# Altium footprint library Infineon Technologies Footprints.PcbLib: 65 footprints (part 3 of 5)
Each footprint in its own frame and in the unit in brackets; x right, y up, seen from the top. Pads: shape width x height; smd on the part's side, far side on the other; paste and mask are expansions set on the pad; w line width, h text height; cw(c..) or ccw(c..) is an arc to the next point about the centre after c.
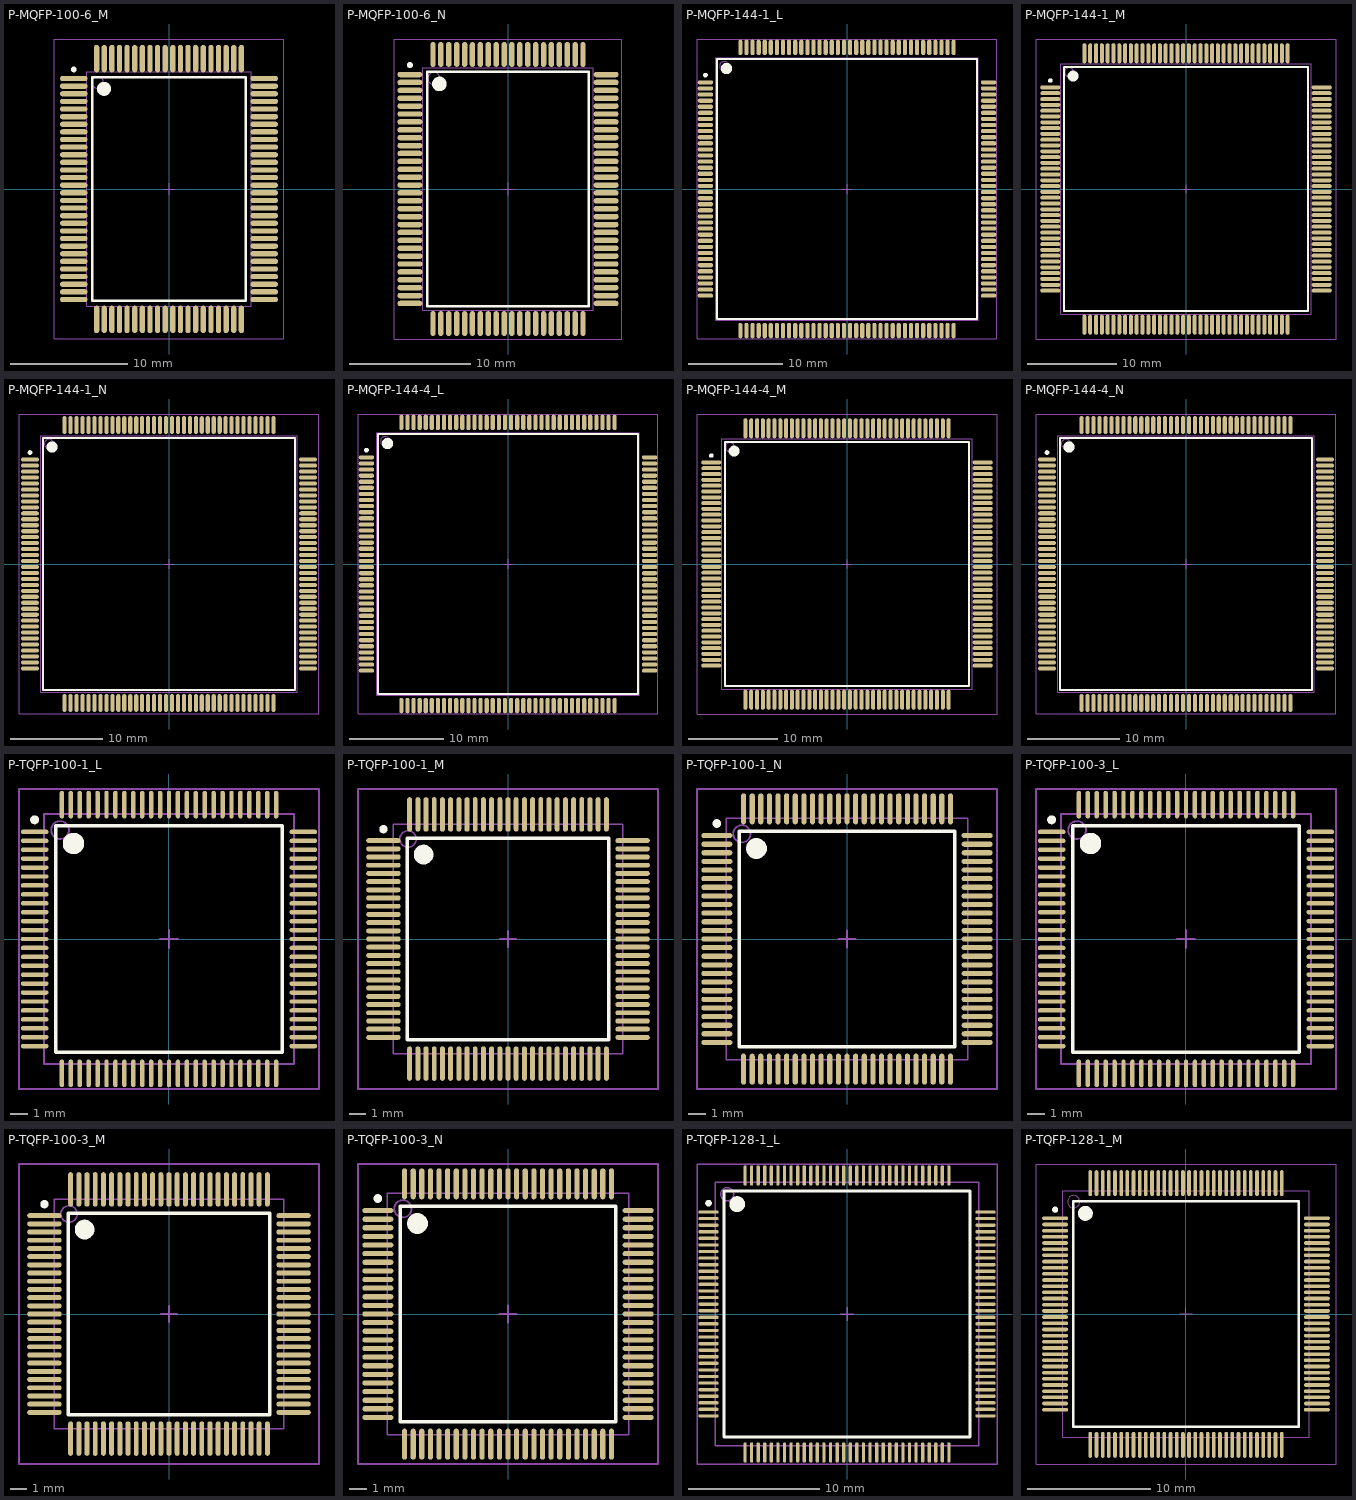
[diagram p2: the footprints below, top view; thin cyan lines are the x and y axes]

## P-MQFP-100-6_M [mm] "100-Pin Quad Flat Pack Rectangular 0.65 mm Pitch, IPC Low Density"
height 3.4
pads (100):
  oval 2.35x0.45 smd: 1(-8.125,9.425) 2(-8.125,8.775) 3(-8.125,8.125) 4(-8.125,7.475) 5(-8.125,6.825) 6(-8.125,6.175) 7(-8.125,5.525) 8(-8.125,4.875) 9(-8.125,4.225) 10(-8.125,3.575) 11(-8.125,2.925) 12(-8.125,2.275) 13(-8.125,1.625) 14(-8.125,0.975) 15(-8.125,0.325) 16(-8.125,-0.325) 17(-8.125,-0.975) 18(-8.125,-1.625) 19(-8.125,-2.275) 20(-8.125,-2.925) 21(-8.125,-3.575) 22(-8.125,-4.225) 23(-8.125,-4.875) 24(-8.125,-5.525) 25(-8.125,-6.175) 26(-8.125,-6.825) 27(-8.125,-7.475) 28(-8.125,-8.125) 29(-8.125,-8.775) 30(-8.125,-9.425) 51(8.125,-9.425) 52(8.125,-8.775) 53(8.125,-8.125) 54(8.125,-7.475) 55(8.125,-6.825) 56(8.125,-6.175) 57(8.125,-5.525) 58(8.125,-4.875) 59(8.125,-4.225) 60(8.125,-3.575) 61(8.125,-2.925) 62(8.125,-2.275) 63(8.125,-1.625) 64(8.125,-0.975) 65(8.125,-0.325) 66(8.125,0.325) 67(8.125,0.975) 68(8.125,1.625) 69(8.125,2.275) 70(8.125,2.925) 71(8.125,3.575) 72(8.125,4.225) 73(8.125,4.875) 74(8.125,5.525) 75(8.125,6.175) 76(8.125,6.825) 77(8.125,7.475) 78(8.125,8.125) 79(8.125,8.775) 80(8.125,9.425)
  oval 0.45x2.35 smd: 31(-6.175,-11.125) 32(-5.525,-11.125) 33(-4.875,-11.125) 34(-4.225,-11.125) 35(-3.575,-11.125) 36(-2.925,-11.125) 37(-2.275,-11.125) 38(-1.625,-11.125) 39(-0.975,-11.125) 40(-0.325,-11.125) 41(0.325,-11.125) 42(0.975,-11.125) 43(1.625,-11.125) 44(2.275,-11.125) 45(2.925,-11.125) 46(3.575,-11.125) 47(4.225,-11.125) 48(4.875,-11.125) 49(5.525,-11.125) 50(6.175,-11.125) 81(6.175,11.125) 82(5.525,11.125) 83(4.875,11.125) 84(4.225,11.125) 85(3.575,11.125) 86(2.925,11.125) 87(2.275,11.125) 88(1.625,11.125) 89(0.975,11.125) 90(0.325,11.125) 91(-0.325,11.125) 92(-0.975,11.125) 93(-1.625,11.125) 94(-2.275,11.125) 95(-2.925,11.125) 96(-3.575,11.125) 97(-4.225,11.125) 98(-4.875,11.125) 99(-5.525,11.125) 100(-6.175,11.125)
Top Overlay:
  circle w0.25: c-8.125,10.2 r0.125
  circle w0.6: c-5.55,8.55 r0.3
  lines w0.2: -6.55,-9.55 -6.55,9.55 6.55,9.55 6.55,-9.55 -6.55,-9.55
Mechanical 13:
  circle w0.1: c-6.1,9.1 r0.5
  lines w0.1: -7,-10 -7,10 7,10 7,-10 -7,-10
Mechanical 15:
  lines w0.1: -0.5,0 0.5,0 ; 0,-0.5 0,0.5 ; -9.8,-12.8 -9.8,12.8 9.8,12.8 9.8,-12.8 -9.8,-12.8
3D body: height 3.4, standoff 0, extent -7,-10 7,10

## P-MQFP-100-6_N [mm] "100-Pin Quad Flat Pack Rectangular 0.65 mm Pitch, IPC Medium Density"
height 3.4
pads (100):
  oval 2.05x0.45 smd: 1(-8.075,9.425) 2(-8.075,8.775) 3(-8.075,8.125) 4(-8.075,7.475) 5(-8.075,6.825) 6(-8.075,6.175) 7(-8.075,5.525) 8(-8.075,4.875) 9(-8.075,4.225) 10(-8.075,3.575) 11(-8.075,2.925) 12(-8.075,2.275) 13(-8.075,1.625) 14(-8.075,0.975) 15(-8.075,0.325) 16(-8.075,-0.325) 17(-8.075,-0.975) 18(-8.075,-1.625) 19(-8.075,-2.275) 20(-8.075,-2.925) 21(-8.075,-3.575) 22(-8.075,-4.225) 23(-8.075,-4.875) 24(-8.075,-5.525) 25(-8.075,-6.175) 26(-8.075,-6.825) 27(-8.075,-7.475) 28(-8.075,-8.125) 29(-8.075,-8.775) 30(-8.075,-9.425) 51(8.075,-9.425) 52(8.075,-8.775) 53(8.075,-8.125) 54(8.075,-7.475) 55(8.075,-6.825) 56(8.075,-6.175) 57(8.075,-5.525) 58(8.075,-4.875) 59(8.075,-4.225) 60(8.075,-3.575) 61(8.075,-2.925) 62(8.075,-2.275) 63(8.075,-1.625) 64(8.075,-0.975) 65(8.075,-0.325) 66(8.075,0.325) 67(8.075,0.975) 68(8.075,1.625) 69(8.075,2.275) 70(8.075,2.925) 71(8.075,3.575) 72(8.075,4.225) 73(8.075,4.875) 74(8.075,5.525) 75(8.075,6.175) 76(8.075,6.825) 77(8.075,7.475) 78(8.075,8.125) 79(8.075,8.775) 80(8.075,9.425)
  oval 0.45x2.05 smd: 31(-6.175,-11.075) 32(-5.525,-11.075) 33(-4.875,-11.075) 34(-4.225,-11.075) 35(-3.575,-11.075) 36(-2.925,-11.075) 37(-2.275,-11.075) 38(-1.625,-11.075) 39(-0.975,-11.075) 40(-0.325,-11.075) 41(0.325,-11.075) 42(0.975,-11.075) 43(1.625,-11.075) 44(2.275,-11.075) 45(2.925,-11.075) 46(3.575,-11.075) 47(4.225,-11.075) 48(4.875,-11.075) 49(5.525,-11.075) 50(6.175,-11.075) 81(6.175,11.075) 82(5.525,11.075) 83(4.875,11.075) 84(4.225,11.075) 85(3.575,11.075) 86(2.925,11.075) 87(2.275,11.075) 88(1.625,11.075) 89(0.975,11.075) 90(0.325,11.075) 91(-0.325,11.075) 92(-0.975,11.075) 93(-1.625,11.075) 94(-2.275,11.075) 95(-2.925,11.075) 96(-3.575,11.075) 97(-4.225,11.075) 98(-4.875,11.075) 99(-5.525,11.075) 100(-6.175,11.075)
Top Overlay:
  circle w0.6: c-5.65,8.65 r0.3
  circle w0.25: c-8.075,10.2 r0.125
  lines w0.2: -6.65,-9.65 6.65,-9.65 6.65,9.65 -6.65,9.65 -6.65,-9.65
Mechanical 13:
  circle w0.1: c-6.1,9.1 r0.5
  lines w0.1: -7,-10 7,-10 7,10 -7,10 -7,-10
Mechanical 15:
  lines w0.1: -0.5,0 0.5,0 ; 0,-0.5 0,0.5 ; -9.35,-12.35 9.35,-12.35 9.35,12.35 -9.35,12.35 -9.35,-12.35
3D body: height 3.4, standoff 0, extent -7,-10 7,10

## P-MQFP-144-1_L [mm] "144-Pin Quad Flat Pack 0.65 mm Pitch, IPC High Density"
height 2.75
pads (144):
  oval 1.65x0.45 smd: 1(-15.1,11.375) 2(-15.1,10.725) 3(-15.1,10.075) 4(-15.1,9.425) 5(-15.1,8.775) 6(-15.1,8.125) 7(-15.1,7.475) 8(-15.1,6.825) 9(-15.1,6.175) 10(-15.1,5.525) 11(-15.1,4.875) 12(-15.1,4.225) 13(-15.1,3.575) 14(-15.1,2.925) 15(-15.1,2.275) 16(-15.1,1.625) 17(-15.1,0.975) 18(-15.1,0.325) 19(-15.1,-0.325) 20(-15.1,-0.975) 21(-15.1,-1.625) 22(-15.1,-2.275) 23(-15.1,-2.925) 24(-15.1,-3.575) 25(-15.1,-4.225) 26(-15.1,-4.875) 27(-15.1,-5.525) 28(-15.1,-6.175) 29(-15.1,-6.825) 30(-15.1,-7.475) 31(-15.1,-8.125) 32(-15.1,-8.775) 33(-15.1,-9.425) 34(-15.1,-10.075) 35(-15.1,-10.725) 36(-15.1,-11.375) 73(15.1,-11.375) 74(15.1,-10.725) 75(15.1,-10.075) 76(15.1,-9.425) 77(15.1,-8.775) 78(15.1,-8.125) 79(15.1,-7.475) 80(15.1,-6.825) 81(15.1,-6.175) 82(15.1,-5.525) 83(15.1,-4.875) 84(15.1,-4.225) 85(15.1,-3.575) 86(15.1,-2.925) 87(15.1,-2.275) 88(15.1,-1.625) 89(15.1,-0.975) 90(15.1,-0.325) 91(15.1,0.325) 92(15.1,0.975) 93(15.1,1.625) 94(15.1,2.275) 95(15.1,2.925) 96(15.1,3.575) 97(15.1,4.225) 98(15.1,4.875) 99(15.1,5.525) 100(15.1,6.175) 101(15.1,6.825) 102(15.1,7.475) 103(15.1,8.125) 104(15.1,8.775) 105(15.1,9.425) 106(15.1,10.075) 107(15.1,10.725) 108(15.1,11.375)
  oval 0.45x1.65 smd: 37(-11.375,-15.1) 38(-10.725,-15.1) 39(-10.075,-15.1) 40(-9.425,-15.1) 41(-8.775,-15.1) 42(-8.125,-15.1) 43(-7.475,-15.1) 44(-6.825,-15.1) 45(-6.175,-15.1) 46(-5.525,-15.1) 47(-4.875,-15.1) 48(-4.225,-15.1) 49(-3.575,-15.1) 50(-2.925,-15.1) 51(-2.275,-15.1) 52(-1.625,-15.1) 53(-0.975,-15.1) 54(-0.325,-15.1) 55(0.325,-15.1) 56(0.975,-15.1) 57(1.625,-15.1) 58(2.275,-15.1) 59(2.925,-15.1) 60(3.575,-15.1) 61(4.225,-15.1) 62(4.875,-15.1) 63(5.525,-15.1) 64(6.175,-15.1) 65(6.825,-15.1) 66(7.475,-15.1) 67(8.125,-15.1) 68(8.775,-15.1) 69(9.425,-15.1) 70(10.075,-15.1) 71(10.725,-15.1) 72(11.375,-15.1) 109(11.375,15.1) 110(10.725,15.1) 111(10.075,15.1) 112(9.425,15.1) 113(8.775,15.1) 114(8.125,15.1) 115(7.475,15.1) 116(6.825,15.1) 117(6.175,15.1) 118(5.525,15.1) 119(4.875,15.1) 120(4.225,15.1) 121(3.575,15.1) 122(2.925,15.1) 123(2.275,15.1) 124(1.625,15.1) 125(0.975,15.1) 126(0.325,15.1) 127(-0.325,15.1) 128(-0.975,15.1) 129(-1.625,15.1) 130(-2.275,15.1) 131(-2.925,15.1) 132(-3.575,15.1) 133(-4.225,15.1) 134(-4.875,15.1) 135(-5.525,15.1) 136(-6.175,15.1) 137(-6.825,15.1) 138(-7.475,15.1) 139(-8.125,15.1) 140(-8.775,15.1) 141(-9.425,15.1) 142(-10.075,15.1) 143(-10.725,15.1) 144(-11.375,15.1)
Top Overlay:
  circle w0.6: c-12.85,12.85 r0.3
  circle w0.25: c-15.1,12.15 r0.125
  lines w0.2: -13.85,-13.85 13.85,-13.85 13.85,13.85 -13.85,13.85 -13.85,-13.85
Mechanical 13:
  circle w0.1: c-13.1,13.1 r0.5
  lines w0.1: -14,-14 14,-14 14,14 -14,14 -14,-14
Mechanical 15:
  lines w0.1: -0.5,0 0.5,0 ; 0,-0.5 0,0.5 ; -16,-16 16,-16 16,16 -16,16 -16,-16
3D body: height 2.75, standoff 0, extent -14,-14 14,14

## P-MQFP-144-1_M [mm] "144-Pin Quad Flat Pack 0.65 mm Pitch, IPC Low Density"
height 2.75
pads (144):
  oval 2.25x0.45 smd: 1(-15.2,11.375) 2(-15.2,10.725) 3(-15.2,10.075) 4(-15.2,9.425) 5(-15.2,8.775) 6(-15.2,8.125) 7(-15.2,7.475) 8(-15.2,6.825) 9(-15.2,6.175) 10(-15.2,5.525) 11(-15.2,4.875) 12(-15.2,4.225) 13(-15.2,3.575) 14(-15.2,2.925) 15(-15.2,2.275) 16(-15.2,1.625) 17(-15.2,0.975) 18(-15.2,0.325) 19(-15.2,-0.325) 20(-15.2,-0.975) 21(-15.2,-1.625) 22(-15.2,-2.275) 23(-15.2,-2.925) 24(-15.2,-3.575) 25(-15.2,-4.225) 26(-15.2,-4.875) 27(-15.2,-5.525) 28(-15.2,-6.175) 29(-15.2,-6.825) 30(-15.2,-7.475) 31(-15.2,-8.125) 32(-15.2,-8.775) 33(-15.2,-9.425) 34(-15.2,-10.075) 35(-15.2,-10.725) 36(-15.2,-11.375) 73(15.2,-11.375) 74(15.2,-10.725) 75(15.2,-10.075) 76(15.2,-9.425) 77(15.2,-8.775) 78(15.2,-8.125) 79(15.2,-7.475) 80(15.2,-6.825) 81(15.2,-6.175) 82(15.2,-5.525) 83(15.2,-4.875) 84(15.2,-4.225) 85(15.2,-3.575) 86(15.2,-2.925) 87(15.2,-2.275) 88(15.2,-1.625) 89(15.2,-0.975) 90(15.2,-0.325) 91(15.2,0.325) 92(15.2,0.975) 93(15.2,1.625) 94(15.2,2.275) 95(15.2,2.925) 96(15.2,3.575) 97(15.2,4.225) 98(15.2,4.875) 99(15.2,5.525) 100(15.2,6.175) 101(15.2,6.825) 102(15.2,7.475) 103(15.2,8.125) 104(15.2,8.775) 105(15.2,9.425) 106(15.2,10.075) 107(15.2,10.725) 108(15.2,11.375)
  oval 0.45x2.25 smd: 37(-11.375,-15.2) 38(-10.725,-15.2) 39(-10.075,-15.2) 40(-9.425,-15.2) 41(-8.775,-15.2) 42(-8.125,-15.2) 43(-7.475,-15.2) 44(-6.825,-15.2) 45(-6.175,-15.2) 46(-5.525,-15.2) 47(-4.875,-15.2) 48(-4.225,-15.2) 49(-3.575,-15.2) 50(-2.925,-15.2) 51(-2.275,-15.2) 52(-1.625,-15.2) 53(-0.975,-15.2) 54(-0.325,-15.2) 55(0.325,-15.2) 56(0.975,-15.2) 57(1.625,-15.2) 58(2.275,-15.2) 59(2.925,-15.2) 60(3.575,-15.2) 61(4.225,-15.2) 62(4.875,-15.2) 63(5.525,-15.2) 64(6.175,-15.2) 65(6.825,-15.2) 66(7.475,-15.2) 67(8.125,-15.2) 68(8.775,-15.2) 69(9.425,-15.2) 70(10.075,-15.2) 71(10.725,-15.2) 72(11.375,-15.2) 109(11.375,15.2) 110(10.725,15.2) 111(10.075,15.2) 112(9.425,15.2) 113(8.775,15.2) 114(8.125,15.2) 115(7.475,15.2) 116(6.825,15.2) 117(6.175,15.2) 118(5.525,15.2) 119(4.875,15.2) 120(4.225,15.2) 121(3.575,15.2) 122(2.925,15.2) 123(2.275,15.2) 124(1.625,15.2) 125(0.975,15.2) 126(0.325,15.2) 127(-0.325,15.2) 128(-0.975,15.2) 129(-1.625,15.2) 130(-2.275,15.2) 131(-2.925,15.2) 132(-3.575,15.2) 133(-4.225,15.2) 134(-4.875,15.2) 135(-5.525,15.2) 136(-6.175,15.2) 137(-6.825,15.2) 138(-7.475,15.2) 139(-8.125,15.2) 140(-8.775,15.2) 141(-9.425,15.2) 142(-10.075,15.2) 143(-10.725,15.2) 144(-11.375,15.2)
Top Overlay:
  circle w0.6: c-12.65,12.65 r0.3
  circle w0.25: c-15.2,12.15 r0.125
  lines w0.2: -13.65,-13.65 13.65,-13.65 13.65,13.65 -13.65,13.65 -13.65,-13.65
Mechanical 13:
  circle w0.1: c-13.1,13.1 r0.5
  lines w0.1: -14,-14 14,-14 14,14 -14,14 -14,-14
Mechanical 15:
  lines w0.1: -0.5,0 0.5,0 ; 0,-0.5 0,0.5 ; -16.8,-16.8 16.8,-16.8 16.8,16.8 -16.8,16.8 -16.8,-16.8
3D body: height 2.75, standoff 0, extent -14,-14 14,14

## P-MQFP-144-1_N [mm] "144-Pin Quad Flat Pack 0.65 mm Pitch, IPC Medium Density"
height 2.75
pads (144):
  oval 1.95x0.45 smd: 1(-15.15,11.375) 2(-15.15,10.725) 3(-15.15,10.075) 4(-15.15,9.425) 5(-15.15,8.775) 6(-15.15,8.125) 7(-15.15,7.475) 8(-15.15,6.825) 9(-15.15,6.175) 10(-15.15,5.525) 11(-15.15,4.875) 12(-15.15,4.225) 13(-15.15,3.575) 14(-15.15,2.925) 15(-15.15,2.275) 16(-15.15,1.625) 17(-15.15,0.975) 18(-15.15,0.325) 19(-15.15,-0.325) 20(-15.15,-0.975) 21(-15.15,-1.625) 22(-15.15,-2.275) 23(-15.15,-2.925) 24(-15.15,-3.575) 25(-15.15,-4.225) 26(-15.15,-4.875) 27(-15.15,-5.525) 28(-15.15,-6.175) 29(-15.15,-6.825) 30(-15.15,-7.475) 31(-15.15,-8.125) 32(-15.15,-8.775) 33(-15.15,-9.425) 34(-15.15,-10.075) 35(-15.15,-10.725) 36(-15.15,-11.375) 73(15.15,-11.375) 74(15.15,-10.725) 75(15.15,-10.075) 76(15.15,-9.425) 77(15.15,-8.775) 78(15.15,-8.125) 79(15.15,-7.475) 80(15.15,-6.825) 81(15.15,-6.175) 82(15.15,-5.525) 83(15.15,-4.875) 84(15.15,-4.225) 85(15.15,-3.575) 86(15.15,-2.925) 87(15.15,-2.275) 88(15.15,-1.625) 89(15.15,-0.975) 90(15.15,-0.325) 91(15.15,0.325) 92(15.15,0.975) 93(15.15,1.625) 94(15.15,2.275) 95(15.15,2.925) 96(15.15,3.575) 97(15.15,4.225) 98(15.15,4.875) 99(15.15,5.525) 100(15.15,6.175) 101(15.15,6.825) 102(15.15,7.475) 103(15.15,8.125) 104(15.15,8.775) 105(15.15,9.425) 106(15.15,10.075) 107(15.15,10.725) 108(15.15,11.375)
  oval 0.45x1.95 smd: 37(-11.375,-15.15) 38(-10.725,-15.15) 39(-10.075,-15.15) 40(-9.425,-15.15) 41(-8.775,-15.15) 42(-8.125,-15.15) 43(-7.475,-15.15) 44(-6.825,-15.15) 45(-6.175,-15.15) 46(-5.525,-15.15) 47(-4.875,-15.15) 48(-4.225,-15.15) 49(-3.575,-15.15) 50(-2.925,-15.15) 51(-2.275,-15.15) 52(-1.625,-15.15) 53(-0.975,-15.15) 54(-0.325,-15.15) 55(0.325,-15.15) 56(0.975,-15.15) 57(1.625,-15.15) 58(2.275,-15.15) 59(2.925,-15.15) 60(3.575,-15.15) 61(4.225,-15.15) 62(4.875,-15.15) 63(5.525,-15.15) 64(6.175,-15.15) 65(6.825,-15.15) 66(7.475,-15.15) 67(8.125,-15.15) 68(8.775,-15.15) 69(9.425,-15.15) 70(10.075,-15.15) 71(10.725,-15.15) 72(11.375,-15.15) 109(11.375,15.15) 110(10.725,15.15) 111(10.075,15.15) 112(9.425,15.15) 113(8.775,15.15) 114(8.125,15.15) 115(7.475,15.15) 116(6.825,15.15) 117(6.175,15.15) 118(5.525,15.15) 119(4.875,15.15) 120(4.225,15.15) 121(3.575,15.15) 122(2.925,15.15) 123(2.275,15.15) 124(1.625,15.15) 125(0.975,15.15) 126(0.325,15.15) 127(-0.325,15.15) 128(-0.975,15.15) 129(-1.625,15.15) 130(-2.275,15.15) 131(-2.925,15.15) 132(-3.575,15.15) 133(-4.225,15.15) 134(-4.875,15.15) 135(-5.525,15.15) 136(-6.175,15.15) 137(-6.825,15.15) 138(-7.475,15.15) 139(-8.125,15.15) 140(-8.775,15.15) 141(-9.425,15.15) 142(-10.075,15.15) 143(-10.725,15.15) 144(-11.375,15.15)
Top Overlay:
  circle w0.6: c-12.75,12.75 r0.3
  circle w0.25: c-15.15,12.15 r0.125
  lines w0.2: -13.75,-13.75 13.75,-13.75 13.75,13.75 -13.75,13.75 -13.75,-13.75
Mechanical 13:
  circle w0.1: c-13.1,13.1 r0.5
  lines w0.1: -14,-14 14,-14 14,14 -14,14 -14,-14
Mechanical 15:
  lines w0.1: -0.5,0 0.5,0 ; 0,-0.5 0,0.5 ; -16.35,-16.35 16.35,-16.35 16.35,16.35 -16.35,16.35 -16.35,-16.35
3D body: height 2.75, standoff 0, extent -14,-14 14,14

## P-MQFP-144-4_L [mm] "144-Pin Quad Flat Pack 0.65 mm Pitch, IPC High Density"
height 2.75
pads (144):
  oval 1.65x0.45 smd: 1(-15.1,11.375) 2(-15.1,10.725) 3(-15.1,10.075) 4(-15.1,9.425) 5(-15.1,8.775) 6(-15.1,8.125) 7(-15.1,7.475) 8(-15.1,6.825) 9(-15.1,6.175) 10(-15.1,5.525) 11(-15.1,4.875) 12(-15.1,4.225) 13(-15.1,3.575) 14(-15.1,2.925) 15(-15.1,2.275) 16(-15.1,1.625) 17(-15.1,0.975) 18(-15.1,0.325) 19(-15.1,-0.325) 20(-15.1,-0.975) 21(-15.1,-1.625) 22(-15.1,-2.275) 23(-15.1,-2.925) 24(-15.1,-3.575) 25(-15.1,-4.225) 26(-15.1,-4.875) 27(-15.1,-5.525) 28(-15.1,-6.175) 29(-15.1,-6.825) 30(-15.1,-7.475) 31(-15.1,-8.125) 32(-15.1,-8.775) 33(-15.1,-9.425) 34(-15.1,-10.075) 35(-15.1,-10.725) 36(-15.1,-11.375) 73(15.1,-11.375) 74(15.1,-10.725) 75(15.1,-10.075) 76(15.1,-9.425) 77(15.1,-8.775) 78(15.1,-8.125) 79(15.1,-7.475) 80(15.1,-6.825) 81(15.1,-6.175) 82(15.1,-5.525) 83(15.1,-4.875) 84(15.1,-4.225) 85(15.1,-3.575) 86(15.1,-2.925) 87(15.1,-2.275) 88(15.1,-1.625) 89(15.1,-0.975) 90(15.1,-0.325) 91(15.1,0.325) 92(15.1,0.975) 93(15.1,1.625) 94(15.1,2.275) 95(15.1,2.925) 96(15.1,3.575) 97(15.1,4.225) 98(15.1,4.875) 99(15.1,5.525) 100(15.1,6.175) 101(15.1,6.825) 102(15.1,7.475) 103(15.1,8.125) 104(15.1,8.775) 105(15.1,9.425) 106(15.1,10.075) 107(15.1,10.725) 108(15.1,11.375)
  oval 0.45x1.65 smd: 37(-11.375,-15.1) 38(-10.725,-15.1) 39(-10.075,-15.1) 40(-9.425,-15.1) 41(-8.775,-15.1) 42(-8.125,-15.1) 43(-7.475,-15.1) 44(-6.825,-15.1) 45(-6.175,-15.1) 46(-5.525,-15.1) 47(-4.875,-15.1) 48(-4.225,-15.1) 49(-3.575,-15.1) 50(-2.925,-15.1) 51(-2.275,-15.1) 52(-1.625,-15.1) 53(-0.975,-15.1) 54(-0.325,-15.1) 55(0.325,-15.1) 56(0.975,-15.1) 57(1.625,-15.1) 58(2.275,-15.1) 59(2.925,-15.1) 60(3.575,-15.1) 61(4.225,-15.1) 62(4.875,-15.1) 63(5.525,-15.1) 64(6.175,-15.1) 65(6.825,-15.1) 66(7.475,-15.1) 67(8.125,-15.1) 68(8.775,-15.1) 69(9.425,-15.1) 70(10.075,-15.1) 71(10.725,-15.1) 72(11.375,-15.1) 109(11.375,15.1) 110(10.725,15.1) 111(10.075,15.1) 112(9.425,15.1) 113(8.775,15.1) 114(8.125,15.1) 115(7.475,15.1) 116(6.825,15.1) 117(6.175,15.1) 118(5.525,15.1) 119(4.875,15.1) 120(4.225,15.1) 121(3.575,15.1) 122(2.925,15.1) 123(2.275,15.1) 124(1.625,15.1) 125(0.975,15.1) 126(0.325,15.1) 127(-0.325,15.1) 128(-0.975,15.1) 129(-1.625,15.1) 130(-2.275,15.1) 131(-2.925,15.1) 132(-3.575,15.1) 133(-4.225,15.1) 134(-4.875,15.1) 135(-5.525,15.1) 136(-6.175,15.1) 137(-6.825,15.1) 138(-7.475,15.1) 139(-8.125,15.1) 140(-8.775,15.1) 141(-9.425,15.1) 142(-10.075,15.1) 143(-10.725,15.1) 144(-11.375,15.1)
Top Overlay:
  circle w0.6: c-12.85,12.85 r0.3
  circle w0.25: c-15.1,12.15 r0.125
  lines w0.2: -13.85,-13.85 13.85,-13.85 13.85,13.85 -13.85,13.85 -13.85,-13.85
Mechanical 13:
  circle w0.1: c-13.1,13.1 r0.5
  lines w0.1: -14,-14 14,-14 14,14 -14,14 -14,-14
Mechanical 15:
  lines w0.1: -0.5,0 0.5,0 ; 0,-0.5 0,0.5 ; -16,-16 16,-16 16,16 -16,16 -16,-16
3D body: height 2.75, standoff 0, extent -14,-14 14,14

## P-MQFP-144-4_M [mm] "144-Pin Quad Flat Pack 0.65 mm Pitch, IPC Low Density"
height 2.75
pads (144):
  oval 2.25x0.45 smd: 1(-15.2,11.375) 2(-15.2,10.725) 3(-15.2,10.075) 4(-15.2,9.425) 5(-15.2,8.775) 6(-15.2,8.125) 7(-15.2,7.475) 8(-15.2,6.825) 9(-15.2,6.175) 10(-15.2,5.525) 11(-15.2,4.875) 12(-15.2,4.225) 13(-15.2,3.575) 14(-15.2,2.925) 15(-15.2,2.275) 16(-15.2,1.625) 17(-15.2,0.975) 18(-15.2,0.325) 19(-15.2,-0.325) 20(-15.2,-0.975) 21(-15.2,-1.625) 22(-15.2,-2.275) 23(-15.2,-2.925) 24(-15.2,-3.575) 25(-15.2,-4.225) 26(-15.2,-4.875) 27(-15.2,-5.525) 28(-15.2,-6.175) 29(-15.2,-6.825) 30(-15.2,-7.475) 31(-15.2,-8.125) 32(-15.2,-8.775) 33(-15.2,-9.425) 34(-15.2,-10.075) 35(-15.2,-10.725) 36(-15.2,-11.375) 73(15.2,-11.375) 74(15.2,-10.725) 75(15.2,-10.075) 76(15.2,-9.425) 77(15.2,-8.775) 78(15.2,-8.125) 79(15.2,-7.475) 80(15.2,-6.825) 81(15.2,-6.175) 82(15.2,-5.525) 83(15.2,-4.875) 84(15.2,-4.225) 85(15.2,-3.575) 86(15.2,-2.925) 87(15.2,-2.275) 88(15.2,-1.625) 89(15.2,-0.975) 90(15.2,-0.325) 91(15.2,0.325) 92(15.2,0.975) 93(15.2,1.625) 94(15.2,2.275) 95(15.2,2.925) 96(15.2,3.575) 97(15.2,4.225) 98(15.2,4.875) 99(15.2,5.525) 100(15.2,6.175) 101(15.2,6.825) 102(15.2,7.475) 103(15.2,8.125) 104(15.2,8.775) 105(15.2,9.425) 106(15.2,10.075) 107(15.2,10.725) 108(15.2,11.375)
  oval 0.45x2.25 smd: 37(-11.375,-15.2) 38(-10.725,-15.2) 39(-10.075,-15.2) 40(-9.425,-15.2) 41(-8.775,-15.2) 42(-8.125,-15.2) 43(-7.475,-15.2) 44(-6.825,-15.2) 45(-6.175,-15.2) 46(-5.525,-15.2) 47(-4.875,-15.2) 48(-4.225,-15.2) 49(-3.575,-15.2) 50(-2.925,-15.2) 51(-2.275,-15.2) 52(-1.625,-15.2) 53(-0.975,-15.2) 54(-0.325,-15.2) 55(0.325,-15.2) 56(0.975,-15.2) 57(1.625,-15.2) 58(2.275,-15.2) 59(2.925,-15.2) 60(3.575,-15.2) 61(4.225,-15.2) 62(4.875,-15.2) 63(5.525,-15.2) 64(6.175,-15.2) 65(6.825,-15.2) 66(7.475,-15.2) 67(8.125,-15.2) 68(8.775,-15.2) 69(9.425,-15.2) 70(10.075,-15.2) 71(10.725,-15.2) 72(11.375,-15.2) 109(11.375,15.2) 110(10.725,15.2) 111(10.075,15.2) 112(9.425,15.2) 113(8.775,15.2) 114(8.125,15.2) 115(7.475,15.2) 116(6.825,15.2) 117(6.175,15.2) 118(5.525,15.2) 119(4.875,15.2) 120(4.225,15.2) 121(3.575,15.2) 122(2.925,15.2) 123(2.275,15.2) 124(1.625,15.2) 125(0.975,15.2) 126(0.325,15.2) 127(-0.325,15.2) 128(-0.975,15.2) 129(-1.625,15.2) 130(-2.275,15.2) 131(-2.925,15.2) 132(-3.575,15.2) 133(-4.225,15.2) 134(-4.875,15.2) 135(-5.525,15.2) 136(-6.175,15.2) 137(-6.825,15.2) 138(-7.475,15.2) 139(-8.125,15.2) 140(-8.775,15.2) 141(-9.425,15.2) 142(-10.075,15.2) 143(-10.725,15.2) 144(-11.375,15.2)
Top Overlay:
  circle w0.6: c-12.65,12.65 r0.3
  circle w0.25: c-15.2,12.15 r0.125
  lines w0.2: -13.65,-13.65 13.65,-13.65 13.65,13.65 -13.65,13.65 -13.65,-13.65
Mechanical 13:
  circle w0.1: c-13.1,13.1 r0.5
  lines w0.1: -14,-14 14,-14 14,14 -14,14 -14,-14
Mechanical 15:
  lines w0.1: -0.5,0 0.5,0 ; 0,-0.5 0,0.5 ; -16.8,-16.8 16.8,-16.8 16.8,16.8 -16.8,16.8 -16.8,-16.8
3D body: height 2.75, standoff 0, extent -14,-14 14,14

## P-MQFP-144-4_N [mm] "144-Pin Quad Flat Pack 0.65 mm Pitch, IPC Medium Density"
height 2.75
pads (144):
  oval 1.95x0.45 smd: 1(-15.15,11.375) 2(-15.15,10.725) 3(-15.15,10.075) 4(-15.15,9.425) 5(-15.15,8.775) 6(-15.15,8.125) 7(-15.15,7.475) 8(-15.15,6.825) 9(-15.15,6.175) 10(-15.15,5.525) 11(-15.15,4.875) 12(-15.15,4.225) 13(-15.15,3.575) 14(-15.15,2.925) 15(-15.15,2.275) 16(-15.15,1.625) 17(-15.15,0.975) 18(-15.15,0.325) 19(-15.15,-0.325) 20(-15.15,-0.975) 21(-15.15,-1.625) 22(-15.15,-2.275) 23(-15.15,-2.925) 24(-15.15,-3.575) 25(-15.15,-4.225) 26(-15.15,-4.875) 27(-15.15,-5.525) 28(-15.15,-6.175) 29(-15.15,-6.825) 30(-15.15,-7.475) 31(-15.15,-8.125) 32(-15.15,-8.775) 33(-15.15,-9.425) 34(-15.15,-10.075) 35(-15.15,-10.725) 36(-15.15,-11.375) 73(15.15,-11.375) 74(15.15,-10.725) 75(15.15,-10.075) 76(15.15,-9.425) 77(15.15,-8.775) 78(15.15,-8.125) 79(15.15,-7.475) 80(15.15,-6.825) 81(15.15,-6.175) 82(15.15,-5.525) 83(15.15,-4.875) 84(15.15,-4.225) 85(15.15,-3.575) 86(15.15,-2.925) 87(15.15,-2.275) 88(15.15,-1.625) 89(15.15,-0.975) 90(15.15,-0.325) 91(15.15,0.325) 92(15.15,0.975) 93(15.15,1.625) 94(15.15,2.275) 95(15.15,2.925) 96(15.15,3.575) 97(15.15,4.225) 98(15.15,4.875) 99(15.15,5.525) 100(15.15,6.175) 101(15.15,6.825) 102(15.15,7.475) 103(15.15,8.125) 104(15.15,8.775) 105(15.15,9.425) 106(15.15,10.075) 107(15.15,10.725) 108(15.15,11.375)
  oval 0.45x1.95 smd: 37(-11.375,-15.15) 38(-10.725,-15.15) 39(-10.075,-15.15) 40(-9.425,-15.15) 41(-8.775,-15.15) 42(-8.125,-15.15) 43(-7.475,-15.15) 44(-6.825,-15.15) 45(-6.175,-15.15) 46(-5.525,-15.15) 47(-4.875,-15.15) 48(-4.225,-15.15) 49(-3.575,-15.15) 50(-2.925,-15.15) 51(-2.275,-15.15) 52(-1.625,-15.15) 53(-0.975,-15.15) 54(-0.325,-15.15) 55(0.325,-15.15) 56(0.975,-15.15) 57(1.625,-15.15) 58(2.275,-15.15) 59(2.925,-15.15) 60(3.575,-15.15) 61(4.225,-15.15) 62(4.875,-15.15) 63(5.525,-15.15) 64(6.175,-15.15) 65(6.825,-15.15) 66(7.475,-15.15) 67(8.125,-15.15) 68(8.775,-15.15) 69(9.425,-15.15) 70(10.075,-15.15) 71(10.725,-15.15) 72(11.375,-15.15) 109(11.375,15.15) 110(10.725,15.15) 111(10.075,15.15) 112(9.425,15.15) 113(8.775,15.15) 114(8.125,15.15) 115(7.475,15.15) 116(6.825,15.15) 117(6.175,15.15) 118(5.525,15.15) 119(4.875,15.15) 120(4.225,15.15) 121(3.575,15.15) 122(2.925,15.15) 123(2.275,15.15) 124(1.625,15.15) 125(0.975,15.15) 126(0.325,15.15) 127(-0.325,15.15) 128(-0.975,15.15) 129(-1.625,15.15) 130(-2.275,15.15) 131(-2.925,15.15) 132(-3.575,15.15) 133(-4.225,15.15) 134(-4.875,15.15) 135(-5.525,15.15) 136(-6.175,15.15) 137(-6.825,15.15) 138(-7.475,15.15) 139(-8.125,15.15) 140(-8.775,15.15) 141(-9.425,15.15) 142(-10.075,15.15) 143(-10.725,15.15) 144(-11.375,15.15)
Top Overlay:
  circle w0.6: c-12.75,12.75 r0.3
  circle w0.25: c-15.15,12.15 r0.125
  lines w0.2: -13.75,-13.75 13.75,-13.75 13.75,13.75 -13.75,13.75 -13.75,-13.75
Mechanical 13:
  circle w0.1: c-13.1,13.1 r0.5
  lines w0.1: -14,-14 14,-14 14,14 -14,14 -14,-14
Mechanical 15:
  lines w0.1: -0.5,0 0.5,0 ; 0,-0.5 0,0.5 ; -16.35,-16.35 16.35,-16.35 16.35,16.35 -16.35,16.35 -16.35,-16.35
3D body: height 2.75, standoff 0, extent -14,-14 14,14

## P-TQFP-100-1_L [mm] "100-Pin Thin Quad Flat Pack 0.5 mm Pitch, IPC High Density"
height 1.6
pads (100):
  oval 1.55x0.25 smd: 1(-7.525,6) 2(-7.525,5.5) 3(-7.525,5) 4(-7.525,4.5) 5(-7.525,4) 6(-7.525,3.5) 7(-7.525,3) 8(-7.525,2.5) 9(-7.525,2) 10(-7.525,1.5) 11(-7.525,1) 12(-7.525,0.5) 13(-7.525,0) 14(-7.525,-0.5) 15(-7.525,-1) 16(-7.525,-1.5) 17(-7.525,-2) 18(-7.525,-2.5) 19(-7.525,-3) 20(-7.525,-3.5) 21(-7.525,-4) 22(-7.525,-4.5) 23(-7.525,-5) 24(-7.525,-5.5) 25(-7.525,-6) 51(7.525,-6) 52(7.525,-5.5) 53(7.525,-5) 54(7.525,-4.5) 55(7.525,-4) 56(7.525,-3.5) 57(7.525,-3) 58(7.525,-2.5) 59(7.525,-2) 60(7.525,-1.5) 61(7.525,-1) 62(7.525,-0.5) 63(7.525,0) 64(7.525,0.5) 65(7.525,1) 66(7.525,1.5) 67(7.525,2) 68(7.525,2.5) 69(7.525,3) 70(7.525,3.5) 71(7.525,4) 72(7.525,4.5) 73(7.525,5) 74(7.525,5.5) 75(7.525,6)
  oval 0.25x1.55 smd: 26(-6,-7.525) 27(-5.5,-7.525) 28(-5,-7.525) 29(-4.5,-7.525) 30(-4,-7.525) 31(-3.5,-7.525) 32(-3,-7.525) 33(-2.5,-7.525) 34(-2,-7.525) 35(-1.5,-7.525) 36(-1,-7.525) 37(-0.5,-7.525) 38(0,-7.525) 39(0.5,-7.525) 40(1,-7.525) 41(1.5,-7.525) 42(2,-7.525) 43(2.5,-7.525) 44(3,-7.525) 45(3.5,-7.525) 46(4,-7.525) 47(4.5,-7.525) 48(5,-7.525) 49(5.5,-7.525) 50(6,-7.525) 76(6,7.525) 77(5.5,7.525) 78(5,7.525) 79(4.5,7.525) 80(4,7.525) 81(3.5,7.525) 82(3,7.525) 83(2.5,7.525) 84(2,7.525) 85(1.5,7.525) 86(1,7.525) 87(0.5,7.525) 88(0,7.525) 89(-0.5,7.525) 90(-1,7.525) 91(-1.5,7.525) 92(-2,7.525) 93(-2.5,7.525) 94(-3,7.525) 95(-3.5,7.525) 96(-4,7.525) 97(-4.5,7.525) 98(-5,7.525) 99(-5.5,7.525) 100(-6,7.525)
Top Overlay:
  circle w0.6: c-5.35,5.35 r0.3
  circle w0.25: c-7.525,6.675 r0.125
  lines w0.2: -6.35,-6.35 6.35,-6.35 6.35,6.35 -6.35,6.35 -6.35,-6.35
Mechanical 13:
  circle w0.1: c-6.1,6.1 r0.5
  lines w0.1: -7,-7 7,-7 7,7 -7,7 -7,-7
Mechanical 15:
  lines w0.1: -0.5,0 0.5,0 ; 0,-0.5 0,0.5 ; -8.4,-8.4 8.4,-8.4 8.4,8.4 -8.4,8.4 -8.4,-8.4
3D body: height 1.6, standoff 0, extent -7,-7 7,7

## P-TQFP-100-1_M [mm] "100-Pin Thin Quad Flat Pack 0.5 mm Pitch, IPC Low Density"
height 1.6
pads (100):
  oval 2.1x0.3 smd: 1(-7.6,6) 2(-7.6,5.5) 3(-7.6,5) 4(-7.6,4.5) 5(-7.6,4) 6(-7.6,3.5) 7(-7.6,3) 8(-7.6,2.5) 9(-7.6,2) 10(-7.6,1.5) 11(-7.6,1) 12(-7.6,0.5) 13(-7.6,0) 14(-7.6,-0.5) 15(-7.6,-1) 16(-7.6,-1.5) 17(-7.6,-2) 18(-7.6,-2.5) 19(-7.6,-3) 20(-7.6,-3.5) 21(-7.6,-4) 22(-7.6,-4.5) 23(-7.6,-5) 24(-7.6,-5.5) 25(-7.6,-6) 51(7.6,-6) 52(7.6,-5.5) 53(7.6,-5) 54(7.6,-4.5) 55(7.6,-4) 56(7.6,-3.5) 57(7.6,-3) 58(7.6,-2.5) 59(7.6,-2) 60(7.6,-1.5) 61(7.6,-1) 62(7.6,-0.5) 63(7.6,0) 64(7.6,0.5) 65(7.6,1) 66(7.6,1.5) 67(7.6,2) 68(7.6,2.5) 69(7.6,3) 70(7.6,3.5) 71(7.6,4) 72(7.6,4.5) 73(7.6,5) 74(7.6,5.5) 75(7.6,6)
  oval 0.3x2.1 smd: 26(-6,-7.6) 27(-5.5,-7.6) 28(-5,-7.6) 29(-4.5,-7.6) 30(-4,-7.6) 31(-3.5,-7.6) 32(-3,-7.6) 33(-2.5,-7.6) 34(-2,-7.6) 35(-1.5,-7.6) 36(-1,-7.6) 37(-0.5,-7.6) 38(0,-7.6) 39(0.5,-7.6) 40(1,-7.6) 41(1.5,-7.6) 42(2,-7.6) 43(2.5,-7.6) 44(3,-7.6) 45(3.5,-7.6) 46(4,-7.6) 47(4.5,-7.6) 48(5,-7.6) 49(5.5,-7.6) 50(6,-7.6) 76(6,7.6) 77(5.5,7.6) 78(5,7.6) 79(4.5,7.6) 80(4,7.6) 81(3.5,7.6) 82(3,7.6) 83(2.5,7.6) 84(2,7.6) 85(1.5,7.6) 86(1,7.6) 87(0.5,7.6) 88(0,7.6) 89(-0.5,7.6) 90(-1,7.6) 91(-1.5,7.6) 92(-2,7.6) 93(-2.5,7.6) 94(-3,7.6) 95(-3.5,7.6) 96(-4,7.6) 97(-4.5,7.6) 98(-5,7.6) 99(-5.5,7.6) 100(-6,7.6)
Top Overlay:
  circle w0.6: c-5.15,5.15 r0.3
  circle w0.25: c-7.6,6.7 r0.125
  lines w0.2: -6.15,-6.15 6.15,-6.15 6.15,6.15 -6.15,6.15 -6.15,-6.15
Mechanical 13:
  circle w0.1: c-6.1,6.1 r0.5
  lines w0.1: -7,-7 7,-7 7,7 -7,7 -7,-7
Mechanical 15:
  lines w0.1: -0.5,0 0.5,0 ; 0,-0.5 0,0.5 ; -9.15,-9.15 9.15,-9.15 9.15,9.15 -9.15,9.15 -9.15,-9.15
3D body: height 1.6, standoff 0, extent -7,-7 7,7

## P-TQFP-100-1_N [mm] "100-Pin Thin Quad Flat Pack 0.5 mm Pitch, IPC Medium Density"
height 1.6
pads (100):
  oval 1.8x0.3 smd: 1(-7.55,6) 2(-7.55,5.5) 3(-7.55,5) 4(-7.55,4.5) 5(-7.55,4) 6(-7.55,3.5) 7(-7.55,3) 8(-7.55,2.5) 9(-7.55,2) 10(-7.55,1.5) 11(-7.55,1) 12(-7.55,0.5) 13(-7.55,0) 14(-7.55,-0.5) 15(-7.55,-1) 16(-7.55,-1.5) 17(-7.55,-2) 18(-7.55,-2.5) 19(-7.55,-3) 20(-7.55,-3.5) 21(-7.55,-4) 22(-7.55,-4.5) 23(-7.55,-5) 24(-7.55,-5.5) 25(-7.55,-6) 51(7.55,-6) 52(7.55,-5.5) 53(7.55,-5) 54(7.55,-4.5) 55(7.55,-4) 56(7.55,-3.5) 57(7.55,-3) 58(7.55,-2.5) 59(7.55,-2) 60(7.55,-1.5) 61(7.55,-1) 62(7.55,-0.5) 63(7.55,0) 64(7.55,0.5) 65(7.55,1) 66(7.55,1.5) 67(7.55,2) 68(7.55,2.5) 69(7.55,3) 70(7.55,3.5) 71(7.55,4) 72(7.55,4.5) 73(7.55,5) 74(7.55,5.5) 75(7.55,6)
  oval 0.3x1.8 smd: 26(-6,-7.55) 27(-5.5,-7.55) 28(-5,-7.55) 29(-4.5,-7.55) 30(-4,-7.55) 31(-3.5,-7.55) 32(-3,-7.55) 33(-2.5,-7.55) 34(-2,-7.55) 35(-1.5,-7.55) 36(-1,-7.55) 37(-0.5,-7.55) 38(0,-7.55) 39(0.5,-7.55) 40(1,-7.55) 41(1.5,-7.55) 42(2,-7.55) 43(2.5,-7.55) 44(3,-7.55) 45(3.5,-7.55) 46(4,-7.55) 47(4.5,-7.55) 48(5,-7.55) 49(5.5,-7.55) 50(6,-7.55) 76(6,7.55) 77(5.5,7.55) 78(5,7.55) 79(4.5,7.55) 80(4,7.55) 81(3.5,7.55) 82(3,7.55) 83(2.5,7.55) 84(2,7.55) 85(1.5,7.55) 86(1,7.55) 87(0.5,7.55) 88(0,7.55) 89(-0.5,7.55) 90(-1,7.55) 91(-1.5,7.55) 92(-2,7.55) 93(-2.5,7.55) 94(-3,7.55) 95(-3.5,7.55) 96(-4,7.55) 97(-4.5,7.55) 98(-5,7.55) 99(-5.5,7.55) 100(-6,7.55)
Top Overlay:
  circle w0.6: c-5.25,5.25 r0.3
  circle w0.25: c-7.55,6.7 r0.125
  lines w0.2: -6.25,-6.25 6.25,-6.25 6.25,6.25 -6.25,6.25 -6.25,-6.25
Mechanical 13:
  circle w0.1: c-6.1,6.1 r0.5
  lines w0.1: -7,-7 7,-7 7,7 -7,7 -7,-7
Mechanical 15:
  lines w0.1: -0.5,0 0.5,0 ; 0,-0.5 0,0.5 ; -8.7,-8.7 8.7,-8.7 8.7,8.7 -8.7,8.7 -8.7,-8.7
3D body: height 1.6, standoff 0, extent -7,-7 7,7

## P-TQFP-100-3_L [mm] "100-Pin Thin Quad Flat Pack 0.5 mm Pitch, IPC High Density"
height 1.6
pads (100):
  oval 1.55x0.25 smd: 1(-7.525,6) 2(-7.525,5.5) 3(-7.525,5) 4(-7.525,4.5) 5(-7.525,4) 6(-7.525,3.5) 7(-7.525,3) 8(-7.525,2.5) 9(-7.525,2) 10(-7.525,1.5) 11(-7.525,1) 12(-7.525,0.5) 13(-7.525,0) 14(-7.525,-0.5) 15(-7.525,-1) 16(-7.525,-1.5) 17(-7.525,-2) 18(-7.525,-2.5) 19(-7.525,-3) 20(-7.525,-3.5) 21(-7.525,-4) 22(-7.525,-4.5) 23(-7.525,-5) 24(-7.525,-5.5) 25(-7.525,-6) 51(7.525,-6) 52(7.525,-5.5) 53(7.525,-5) 54(7.525,-4.5) 55(7.525,-4) 56(7.525,-3.5) 57(7.525,-3) 58(7.525,-2.5) 59(7.525,-2) 60(7.525,-1.5) 61(7.525,-1) 62(7.525,-0.5) 63(7.525,0) 64(7.525,0.5) 65(7.525,1) 66(7.525,1.5) 67(7.525,2) 68(7.525,2.5) 69(7.525,3) 70(7.525,3.5) 71(7.525,4) 72(7.525,4.5) 73(7.525,5) 74(7.525,5.5) 75(7.525,6)
  oval 0.25x1.55 smd: 26(-6,-7.525) 27(-5.5,-7.525) 28(-5,-7.525) 29(-4.5,-7.525) 30(-4,-7.525) 31(-3.5,-7.525) 32(-3,-7.525) 33(-2.5,-7.525) 34(-2,-7.525) 35(-1.5,-7.525) 36(-1,-7.525) 37(-0.5,-7.525) 38(0,-7.525) 39(0.5,-7.525) 40(1,-7.525) 41(1.5,-7.525) 42(2,-7.525) 43(2.5,-7.525) 44(3,-7.525) 45(3.5,-7.525) 46(4,-7.525) 47(4.5,-7.525) 48(5,-7.525) 49(5.5,-7.525) 50(6,-7.525) 76(6,7.525) 77(5.5,7.525) 78(5,7.525) 79(4.5,7.525) 80(4,7.525) 81(3.5,7.525) 82(3,7.525) 83(2.5,7.525) 84(2,7.525) 85(1.5,7.525) 86(1,7.525) 87(0.5,7.525) 88(0,7.525) 89(-0.5,7.525) 90(-1,7.525) 91(-1.5,7.525) 92(-2,7.525) 93(-2.5,7.525) 94(-3,7.525) 95(-3.5,7.525) 96(-4,7.525) 97(-4.5,7.525) 98(-5,7.525) 99(-5.5,7.525) 100(-6,7.525)
Top Overlay:
  circle w0.6: c-5.35,5.35 r0.3
  circle w0.25: c-7.525,6.675 r0.125
  lines w0.2: -6.35,-6.35 6.35,-6.35 6.35,6.35 -6.35,6.35 -6.35,-6.35
Mechanical 13:
  circle w0.1: c-6.1,6.1 r0.5
  lines w0.1: -7,-7 7,-7 7,7 -7,7 -7,-7
Mechanical 15:
  lines w0.1: -0.5,0 0.5,0 ; 0,-0.5 0,0.5 ; -8.4,-8.4 8.4,-8.4 8.4,8.4 -8.4,8.4 -8.4,-8.4
3D body: height 1.6, standoff 0, extent -7,-7 7,7

## P-TQFP-100-3_M [mm] "100-Pin Thin Quad Flat Pack 0.5 mm Pitch, IPC Low Density"
height 1.6
pads (100):
  oval 2.1x0.3 smd: 1(-7.6,6) 2(-7.6,5.5) 3(-7.6,5) 4(-7.6,4.5) 5(-7.6,4) 6(-7.6,3.5) 7(-7.6,3) 8(-7.6,2.5) 9(-7.6,2) 10(-7.6,1.5) 11(-7.6,1) 12(-7.6,0.5) 13(-7.6,0) 14(-7.6,-0.5) 15(-7.6,-1) 16(-7.6,-1.5) 17(-7.6,-2) 18(-7.6,-2.5) 19(-7.6,-3) 20(-7.6,-3.5) 21(-7.6,-4) 22(-7.6,-4.5) 23(-7.6,-5) 24(-7.6,-5.5) 25(-7.6,-6) 51(7.6,-6) 52(7.6,-5.5) 53(7.6,-5) 54(7.6,-4.5) 55(7.6,-4) 56(7.6,-3.5) 57(7.6,-3) 58(7.6,-2.5) 59(7.6,-2) 60(7.6,-1.5) 61(7.6,-1) 62(7.6,-0.5) 63(7.6,0) 64(7.6,0.5) 65(7.6,1) 66(7.6,1.5) 67(7.6,2) 68(7.6,2.5) 69(7.6,3) 70(7.6,3.5) 71(7.6,4) 72(7.6,4.5) 73(7.6,5) 74(7.6,5.5) 75(7.6,6)
  oval 0.3x2.1 smd: 26(-6,-7.6) 27(-5.5,-7.6) 28(-5,-7.6) 29(-4.5,-7.6) 30(-4,-7.6) 31(-3.5,-7.6) 32(-3,-7.6) 33(-2.5,-7.6) 34(-2,-7.6) 35(-1.5,-7.6) 36(-1,-7.6) 37(-0.5,-7.6) 38(0,-7.6) 39(0.5,-7.6) 40(1,-7.6) 41(1.5,-7.6) 42(2,-7.6) 43(2.5,-7.6) 44(3,-7.6) 45(3.5,-7.6) 46(4,-7.6) 47(4.5,-7.6) 48(5,-7.6) 49(5.5,-7.6) 50(6,-7.6) 76(6,7.6) 77(5.5,7.6) 78(5,7.6) 79(4.5,7.6) 80(4,7.6) 81(3.5,7.6) 82(3,7.6) 83(2.5,7.6) 84(2,7.6) 85(1.5,7.6) 86(1,7.6) 87(0.5,7.6) 88(0,7.6) 89(-0.5,7.6) 90(-1,7.6) 91(-1.5,7.6) 92(-2,7.6) 93(-2.5,7.6) 94(-3,7.6) 95(-3.5,7.6) 96(-4,7.6) 97(-4.5,7.6) 98(-5,7.6) 99(-5.5,7.6) 100(-6,7.6)
Top Overlay:
  circle w0.6: c-5.15,5.15 r0.3
  circle w0.25: c-7.6,6.7 r0.125
  lines w0.2: -6.15,-6.15 6.15,-6.15 6.15,6.15 -6.15,6.15 -6.15,-6.15
Mechanical 13:
  circle w0.1: c-6.1,6.1 r0.5
  lines w0.1: -7,-7 7,-7 7,7 -7,7 -7,-7
Mechanical 15:
  lines w0.1: -0.5,0 0.5,0 ; 0,-0.5 0,0.5 ; -9.15,-9.15 9.15,-9.15 9.15,9.15 -9.15,9.15 -9.15,-9.15
3D body: height 1.6, standoff 0, extent -7,-7 7,7

## P-TQFP-100-3_N [mm] "100-Pin Thin Quad Flat Pack 0.5 mm Pitch, IPC Medium Density"
height 1.6
pads (100):
  oval 1.8x0.3 smd: 1(-7.55,6) 2(-7.55,5.5) 3(-7.55,5) 4(-7.55,4.5) 5(-7.55,4) 6(-7.55,3.5) 7(-7.55,3) 8(-7.55,2.5) 9(-7.55,2) 10(-7.55,1.5) 11(-7.55,1) 12(-7.55,0.5) 13(-7.55,0) 14(-7.55,-0.5) 15(-7.55,-1) 16(-7.55,-1.5) 17(-7.55,-2) 18(-7.55,-2.5) 19(-7.55,-3) 20(-7.55,-3.5) 21(-7.55,-4) 22(-7.55,-4.5) 23(-7.55,-5) 24(-7.55,-5.5) 25(-7.55,-6) 51(7.55,-6) 52(7.55,-5.5) 53(7.55,-5) 54(7.55,-4.5) 55(7.55,-4) 56(7.55,-3.5) 57(7.55,-3) 58(7.55,-2.5) 59(7.55,-2) 60(7.55,-1.5) 61(7.55,-1) 62(7.55,-0.5) 63(7.55,0) 64(7.55,0.5) 65(7.55,1) 66(7.55,1.5) 67(7.55,2) 68(7.55,2.5) 69(7.55,3) 70(7.55,3.5) 71(7.55,4) 72(7.55,4.5) 73(7.55,5) 74(7.55,5.5) 75(7.55,6)
  oval 0.3x1.8 smd: 26(-6,-7.55) 27(-5.5,-7.55) 28(-5,-7.55) 29(-4.5,-7.55) 30(-4,-7.55) 31(-3.5,-7.55) 32(-3,-7.55) 33(-2.5,-7.55) 34(-2,-7.55) 35(-1.5,-7.55) 36(-1,-7.55) 37(-0.5,-7.55) 38(0,-7.55) 39(0.5,-7.55) 40(1,-7.55) 41(1.5,-7.55) 42(2,-7.55) 43(2.5,-7.55) 44(3,-7.55) 45(3.5,-7.55) 46(4,-7.55) 47(4.5,-7.55) 48(5,-7.55) 49(5.5,-7.55) 50(6,-7.55) 76(6,7.55) 77(5.5,7.55) 78(5,7.55) 79(4.5,7.55) 80(4,7.55) 81(3.5,7.55) 82(3,7.55) 83(2.5,7.55) 84(2,7.55) 85(1.5,7.55) 86(1,7.55) 87(0.5,7.55) 88(0,7.55) 89(-0.5,7.55) 90(-1,7.55) 91(-1.5,7.55) 92(-2,7.55) 93(-2.5,7.55) 94(-3,7.55) 95(-3.5,7.55) 96(-4,7.55) 97(-4.5,7.55) 98(-5,7.55) 99(-5.5,7.55) 100(-6,7.55)
Top Overlay:
  circle w0.6: c-5.25,5.25 r0.3
  circle w0.25: c-7.55,6.7 r0.125
  lines w0.2: -6.25,-6.25 6.25,-6.25 6.25,6.25 -6.25,6.25 -6.25,-6.25
Mechanical 13:
  circle w0.1: c-6.1,6.1 r0.5
  lines w0.1: -7,-7 7,-7 7,7 -7,7 -7,-7
Mechanical 15:
  lines w0.1: -0.5,0 0.5,0 ; 0,-0.5 0,0.5 ; -8.7,-8.7 8.7,-8.7 8.7,8.7 -8.7,8.7 -8.7,-8.7
3D body: height 1.6, standoff 0, extent -7,-7 7,7

## P-TQFP-128-1_L [mm] "128-Pin Thin Quad Flat Pack 0.5 mm Pitch, IPC High Density"
height 1.6
pads (128):
  oval 1.55x0.25 smd: 1(-10.525,7.75) 2(-10.525,7.25) 3(-10.525,6.75) 4(-10.525,6.25) 5(-10.525,5.75) 6(-10.525,5.25) 7(-10.525,4.75) 8(-10.525,4.25) 9(-10.525,3.75) 10(-10.525,3.25) 11(-10.525,2.75) 12(-10.525,2.25) 13(-10.525,1.75) 14(-10.525,1.25) 15(-10.525,0.75) 16(-10.525,0.25) 17(-10.525,-0.25) 18(-10.525,-0.75) 19(-10.525,-1.25) 20(-10.525,-1.75) 21(-10.525,-2.25) 22(-10.525,-2.75) 23(-10.525,-3.25) 24(-10.525,-3.75) 25(-10.525,-4.25) 26(-10.525,-4.75) 27(-10.525,-5.25) 28(-10.525,-5.75) 29(-10.525,-6.25) 30(-10.525,-6.75) 31(-10.525,-7.25) 32(-10.525,-7.75) 65(10.525,-7.75) 66(10.525,-7.25) 67(10.525,-6.75) 68(10.525,-6.25) 69(10.525,-5.75) 70(10.525,-5.25) 71(10.525,-4.75) 72(10.525,-4.25) 73(10.525,-3.75) 74(10.525,-3.25) 75(10.525,-2.75) 76(10.525,-2.25) 77(10.525,-1.75) 78(10.525,-1.25) 79(10.525,-0.75) 80(10.525,-0.25) 81(10.525,0.25) 82(10.525,0.75) 83(10.525,1.25) 84(10.525,1.75) 85(10.525,2.25) 86(10.525,2.75) 87(10.525,3.25) 88(10.525,3.75) 89(10.525,4.25) 90(10.525,4.75) 91(10.525,5.25) 92(10.525,5.75) 93(10.525,6.25) 94(10.525,6.75) 95(10.525,7.25) 96(10.525,7.75)
  oval 0.25x1.55 smd: 33(-7.75,-10.525) 34(-7.25,-10.525) 35(-6.75,-10.525) 36(-6.25,-10.525) 37(-5.75,-10.525) 38(-5.25,-10.525) 39(-4.75,-10.525) 40(-4.25,-10.525) 41(-3.75,-10.525) 42(-3.25,-10.525) 43(-2.75,-10.525) 44(-2.25,-10.525) 45(-1.75,-10.525) 46(-1.25,-10.525) 47(-0.75,-10.525) 48(-0.25,-10.525) 49(0.25,-10.525) 50(0.75,-10.525) 51(1.25,-10.525) 52(1.75,-10.525) 53(2.25,-10.525) 54(2.75,-10.525) 55(3.25,-10.525) 56(3.75,-10.525) 57(4.25,-10.525) 58(4.75,-10.525) 59(5.25,-10.525) 60(5.75,-10.525) 61(6.25,-10.525) 62(6.75,-10.525) 63(7.25,-10.525) 64(7.75,-10.525) 97(7.75,10.525) 98(7.25,10.525) 99(6.75,10.525) 100(6.25,10.525) 101(5.75,10.525) 102(5.25,10.525) 103(4.75,10.525) 104(4.25,10.525) 105(3.75,10.525) 106(3.25,10.525) 107(2.75,10.525) 108(2.25,10.525) 109(1.75,10.525) 110(1.25,10.525) 111(0.75,10.525) 112(0.25,10.525) 113(-0.25,10.525) 114(-0.75,10.525) 115(-1.25,10.525) 116(-1.75,10.525) 117(-2.25,10.525) 118(-2.75,10.525) 119(-3.25,10.525) 120(-3.75,10.525) 121(-4.25,10.525) 122(-4.75,10.525) 123(-5.25,10.525) 124(-5.75,10.525) 125(-6.25,10.525) 126(-6.75,10.525) 127(-7.25,10.525) 128(-7.75,10.525)
Top Overlay:
  circle w0.6: c-8.35,8.35 r0.3
  circle w0.25: c-10.525,8.425 r0.125
  lines w0.2: -9.35,-9.35 9.35,-9.35 9.35,9.35 -9.35,9.35 -9.35,-9.35
Mechanical 13:
  circle w0.1: c-9.1,9.1 r0.5
  lines w0.1: -10,-10 10,-10 10,10 -10,10 -10,-10
Mechanical 15:
  lines w0.1: -0.5,0 0.5,0 ; 0,-0.5 0,0.5 ; -11.4,-11.4 11.4,-11.4 11.4,11.4 -11.4,11.4 -11.4,-11.4
3D body: height 1.6, standoff 0, extent -10,-10 10,10

## P-TQFP-128-1_M [mm] "128-Pin Thin Quad Flat Pack 0.5 mm Pitch, IPC Low Density"
height 1.6
pads (128):
  oval 2.1x0.3 smd: 1(-10.6,7.75) 2(-10.6,7.25) 3(-10.6,6.75) 4(-10.6,6.25) 5(-10.6,5.75) 6(-10.6,5.25) 7(-10.6,4.75) 8(-10.6,4.25) 9(-10.6,3.75) 10(-10.6,3.25) 11(-10.6,2.75) 12(-10.6,2.25) 13(-10.6,1.75) 14(-10.6,1.25) 15(-10.6,0.75) 16(-10.6,0.25) 17(-10.6,-0.25) 18(-10.6,-0.75) 19(-10.6,-1.25) 20(-10.6,-1.75) 21(-10.6,-2.25) 22(-10.6,-2.75) 23(-10.6,-3.25) 24(-10.6,-3.75) 25(-10.6,-4.25) 26(-10.6,-4.75) 27(-10.6,-5.25) 28(-10.6,-5.75) 29(-10.6,-6.25) 30(-10.6,-6.75) 31(-10.6,-7.25) 32(-10.6,-7.75) 65(10.6,-7.75) 66(10.6,-7.25) 67(10.6,-6.75) 68(10.6,-6.25) 69(10.6,-5.75) 70(10.6,-5.25) 71(10.6,-4.75) 72(10.6,-4.25) 73(10.6,-3.75) 74(10.6,-3.25) 75(10.6,-2.75) 76(10.6,-2.25) 77(10.6,-1.75) 78(10.6,-1.25) 79(10.6,-0.75) 80(10.6,-0.25) 81(10.6,0.25) 82(10.6,0.75) 83(10.6,1.25) 84(10.6,1.75) 85(10.6,2.25) 86(10.6,2.75) 87(10.6,3.25) 88(10.6,3.75) 89(10.6,4.25) 90(10.6,4.75) 91(10.6,5.25) 92(10.6,5.75) 93(10.6,6.25) 94(10.6,6.75) 95(10.6,7.25) 96(10.6,7.75)
  oval 0.3x2.1 smd: 33(-7.75,-10.6) 34(-7.25,-10.6) 35(-6.75,-10.6) 36(-6.25,-10.6) 37(-5.75,-10.6) 38(-5.25,-10.6) 39(-4.75,-10.6) 40(-4.25,-10.6) 41(-3.75,-10.6) 42(-3.25,-10.6) 43(-2.75,-10.6) 44(-2.25,-10.6) 45(-1.75,-10.6) 46(-1.25,-10.6) 47(-0.75,-10.6) 48(-0.25,-10.6) 49(0.25,-10.6) 50(0.75,-10.6) 51(1.25,-10.6) 52(1.75,-10.6) 53(2.25,-10.6) 54(2.75,-10.6) 55(3.25,-10.6) 56(3.75,-10.6) 57(4.25,-10.6) 58(4.75,-10.6) 59(5.25,-10.6) 60(5.75,-10.6) 61(6.25,-10.6) 62(6.75,-10.6) 63(7.25,-10.6) 64(7.75,-10.6) 97(7.75,10.6) 98(7.25,10.6) 99(6.75,10.6) 100(6.25,10.6) 101(5.75,10.6) 102(5.25,10.6) 103(4.75,10.6) 104(4.25,10.6) 105(3.75,10.6) 106(3.25,10.6) 107(2.75,10.6) 108(2.25,10.6) 109(1.75,10.6) 110(1.25,10.6) 111(0.75,10.6) 112(0.25,10.6) 113(-0.25,10.6) 114(-0.75,10.6) 115(-1.25,10.6) 116(-1.75,10.6) 117(-2.25,10.6) 118(-2.75,10.6) 119(-3.25,10.6) 120(-3.75,10.6) 121(-4.25,10.6) 122(-4.75,10.6) 123(-5.25,10.6) 124(-5.75,10.6) 125(-6.25,10.6) 126(-6.75,10.6) 127(-7.25,10.6) 128(-7.75,10.6)
Top Overlay:
  circle w0.25: c-10.6,8.45 r0.125
  circle w0.6: c-8.15,8.15 r0.3
  lines w0.2: -9.15,-9.15 -9.15,9.15 9.15,9.15 9.15,-9.15 -9.15,-9.15
Mechanical 13:
  circle w0.1: c-9.1,9.1 r0.5
  lines w0.1: -10,-10 -10,10 10,10 10,-10 -10,-10
Mechanical 15:
  lines w0.1: -0.5,0 0.5,0 ; 0,-0.5 0,0.5 ; -12.15,-12.15 -12.15,12.15 12.15,12.15 12.15,-12.15 -12.15,-12.15
3D body: height 1.6, standoff 0, extent -10,-10 10,10